# Altium schematic symbol library USB-B-S-RA.SchLib: 1 symbol
Pins are listed as number, name and electrical type; pins without a type are passive.

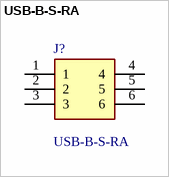
[diagram p0: symbol USB-B-S-RA]

## USB-B-S-RA
designator J?
Connector USB Type B Receptacle .Single Right Angle Thru Hole; Manufacturer_Name: Adam Tech; Geometry.Height: 10mm; TME Electronic Components Part Number: *; TME Electronic Components Price/Stock: *; Manufacturer_Part_Number: USB-B-S-RA; Datasheet Link: https://datasheet.datasheetarchive.com/originals/distributors/Datasheets_SAMA/2da73933fd867bb01aba3cef730a29a2.pdf
footprint USBBSRA
pins: 1, 2, 3, 4, 5, 6